# Altium schematic symbol library 4D15-P4.Schlib: 1 symbol
Pins are listed as number, name and electrical type; pins without a type are passive.

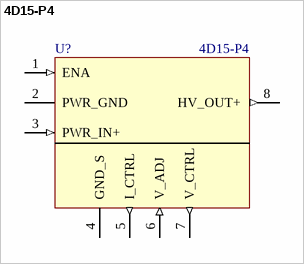
[diagram p0: symbol 4D15-P4]

## 4D15-P4
designator U?
Назначение: DC-DC преобразователь; Наименование: 4D15-P4
footprint 4D15-P4
pins: 1 ENA (in), 2 PWR_GND, 3 PWR_IN+ (in), 4 GND_S (oc), 5 I_CTRL (out), 6 V_ADJ (in), 7 V_CTRL (out), 8 HV_OUT+ (out)